# Altium footprint library pcb library L pcb.PcbLib: 2 footprints
Each footprint in its own frame and in the unit in brackets; x right, y up, seen from the top. Pads: shape width x height; smd on the part's side, far side on the other; paste and mask are expansions set on the pad; w line width, h text height; cw(c..) or ccw(c..) is an arc to the next point about the centre after c.
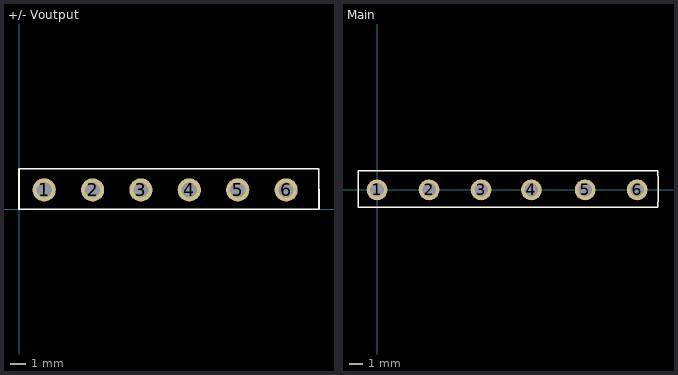
[diagram p0: the footprints below, top view; thin cyan lines are the x and y axes]

## +/- Voutput [mil]
pads (6):
  round 60 hole 39.37: 1(65,50) 2(190,50) 3(315,50) 4(440,50) 5(565,50) 6(690,50)
Top Overlay:
  lines w3.94: 0,0 0,105 774.9,105 775.03,0 0,0

## Main [mil]
pads (6):
  round 60 hole 39.37: 1(0,0) 2(150,0) 3(300,0) 4(445,0) 5(600,0) 6(750,0)
Top Overlay:
  lines w3.94: -55,-50 810,-50 810.04,-20.48 810.04,24.52 809.96,55 -55,55 -55,-50